# Altium footprint library AO4606.PcbLib: 1 footprints
Each footprint in its own frame and in the unit in brackets; x right, y up, seen from the top. Pads: shape width x height; smd on the part's side, far side on the other; paste and mask are expansions set on the pad; w line width, h text height; cw(c..) or ccw(c..) is an arc to the next point about the centre after c.
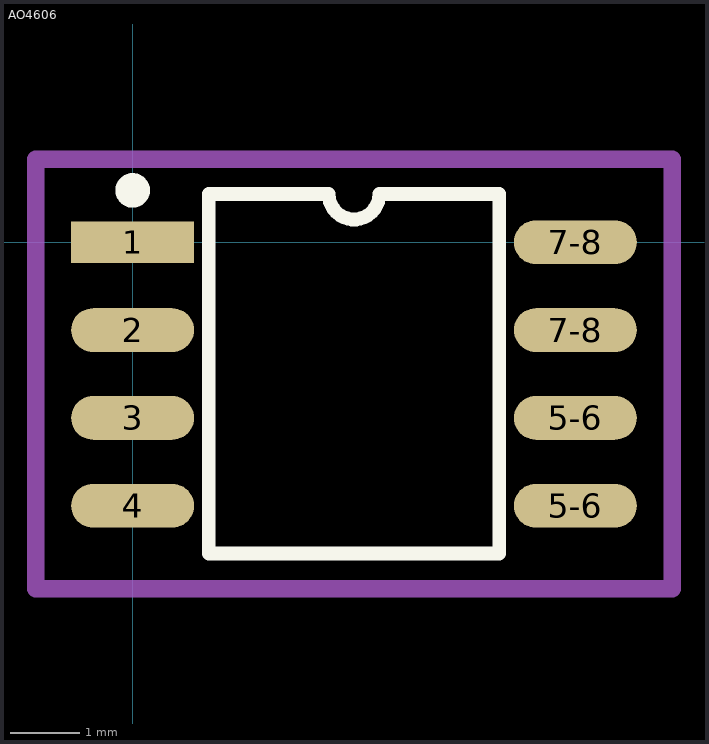
[diagram p0: the footprint, top view; thin cyan lines are the x and y axes]

## AO4606 [mil]
pads (8):
  rect 70x23.62 smd: 1(0,0)
  oval 70x25 smd: 2(0,-50) 3(0,-100) 4(0,-150) 5-6(251.97,-150) 5-6(251.97,-100) 7-8(251.97,-50) 7-8(251.97,0)
Top Overlay:
  circle w9.84: c0,29.53 r4.92
  lines w7.87: 207.26,-177.17 43.31,-177.17 43.31,27.42 111.55,27.42 ccw(c125.98,27.42) 140.42,27.42 208.66,27.42 208.66,-177.17
Mechanical 15:
  lines w10: -55.12,-197.24 -55.12,47.24 307.09,47.24 307.09,-197.24 -55.12,-197.24
3D body "SOIC-8.step": height 68.7, standoff -0.31, extent 3.95,-173.24 248.02,23.61